# Altium schematic symbol library BC9VPC.SchLib: 1 symbol
Pins are listed as number, name and electrical type; pins without a type are passive.

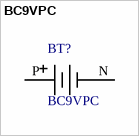
[diagram p0: symbol BC9VPC]

## BC9VPC
designator BT?
/ BATTERY HOLDER 9V PC PIN /; MF: MPD; Price: None; Availability: Unavailable; MP: BC9VPC; SnapEDA_Link: https://www.snapeda.com/parts/BC9VPC/MPD/view-part/4389071/?ref=snap; Package: None; Value: *
footprint *BAT_BC9VPC_BC9VPC(Primary)
pins: N NEG, P POS